# Altium footprint library rocke_mcu.PcbLib: 33 footprints (part 2 of 3)
Each footprint in its own frame and in the unit in brackets; x right, y up, seen from the top. Pads: shape width x height; smd on the part's side, far side on the other; paste and mask are expansions set on the pad; w line width, h text height; cw(c..) or ccw(c..) is an arc to the next point about the centre after c.
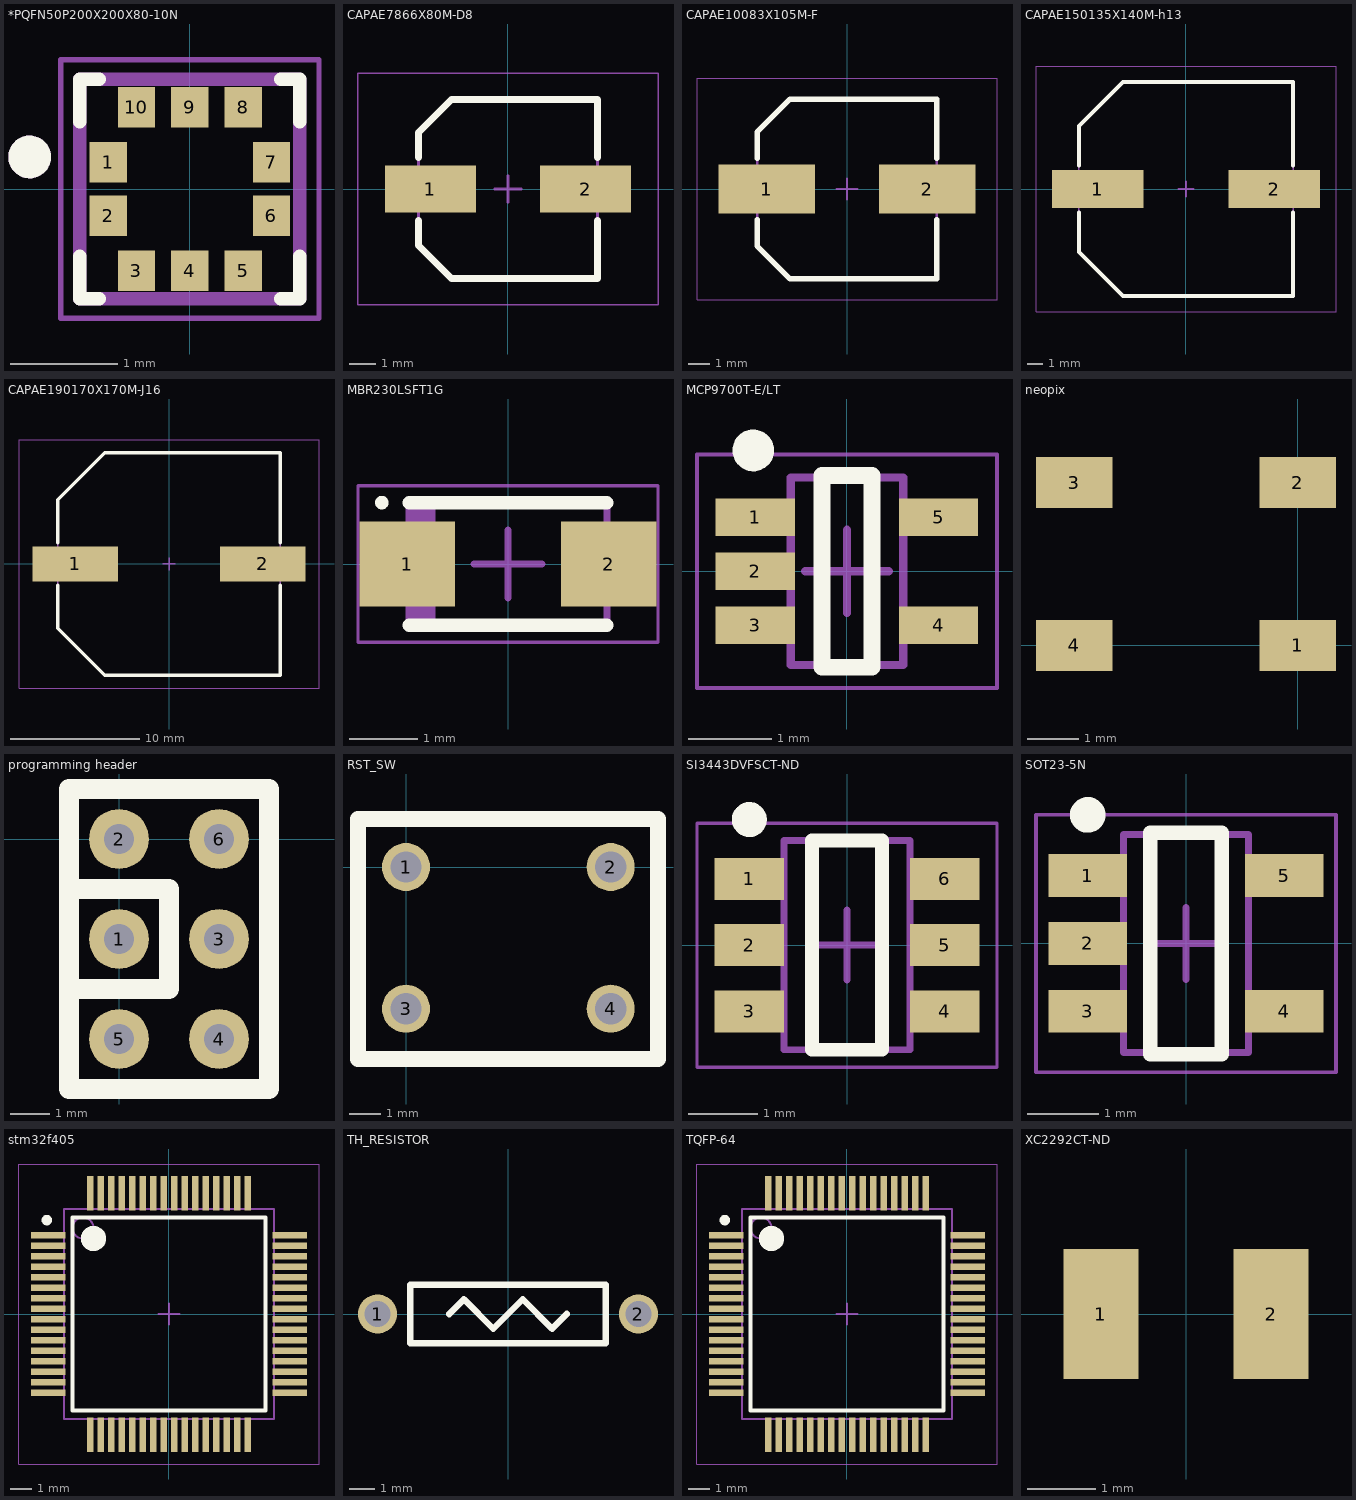
[diagram p1: the footprints below, top view; thin cyan lines are the x and y axes]

## *PQFN50P200X200X80-10N [mm]
pads (10):
  rect 0.35x0.38 smd: 1(-0.765,0.25) 2(-0.765,-0.25) 3(-0.5,-0.765) 4(0,-0.765) 5(0.5,-0.765) 6(0.765,-0.25) 7(0.765,0.25) 8(0.5,0.765) 9(0,0.765) 10(-0.5,0.765)
Top Overlay:
  circle w0.2: c-1.5,0.3 r0.1
  lines w0.127: -1.03,-0.63 -1.03,-1.03 -0.85,-1.03 ; -1.03,0.63 -1.03,1.03 -0.85,1.03 ; 0.85,-1.03 1.03,-1.03 1.03,-0.63 ; 0.85,1.03 1.03,1.03 1.03,0.63
Mechanical 4:
  circle w0.2: c-1.5,0.3 r0.1
  circle w0.2: c-1.5,0.3 r0.1
  lines w0.127: -1.03,-1.03 -1.03,1.03 ; -1.03,-1.03 1.03,-1.03 ; -1.03,-1.03 -1.03,1.03 ; -1.03,-1.03 1.03,-1.03 ; -1.03,1.03 1.03,1.03 ; -1.03,1.03 1.03,1.03 ; 1.03,-1.03 1.03,1.03 ; 1.03,-1.03 1.03,1.03
Mechanical 16:
  lines w0.05: -1.21,-1.21 -1.21,1.21 1.21,1.21 1.21,-1.21 -1.21,-1.21
3D body "BMP388--3DModel-STEP-56544.STEP": height 0.8, standoff 0, extent -1,-1 1,1

## CAPAE7866X80M-D8 [mm] "Aluminum Electrolytic Capacitor, Body 6.60x6.60x8.00mm, IPC Low Density"
height 8
pads (2):
  rect 3.45x1.8 smd: 1(-2.95,0) 2(2.95,0)
Top Overlay:
  lines w0.254: -3.4,-1.2 -3.4,-2.15 -2.15,-3.4 3.4,-3.4 3.4,-1.2 ; -3.4,1.2 -3.4,2.15 -2.15,3.4 3.4,3.4 3.4,1.2
Mechanical 13:
  lines w0.1: -3.4,-2.15 -2.15,-3.4 3.4,-3.4 3.4,3.4 -2.15,3.4 -3.4,2.15 -3.4,-2.15
Mechanical 15:
  lines w0.05: -5.7,-4.4 -5.7,4.4 5.7,4.4 5.7,-4.4 -5.7,-4.4
  lines w0.1: -0.5,0 0.5,0 ; 0,-0.5 0,0.5
3D body "CAPAE7866X80M.step": height 8, standoff 0, extent -3.9,-3.4 3.9,3.4

## CAPAE10083X105M-F [mm] "Aluminum Electrolytic Capacitor, Body 8.30x8.30x10.50mm, IPC Low Density"
height 10.5
pads (2):
  rect 4.55x2.3 smd: 1(-3.8,0) 2(3.8,0)
Top Overlay:
  lines w0.254: -4.25,-1.45 -4.25,-2.7 -2.7,-4.25 4.25,-4.25 4.25,-1.45 ; -4.25,1.45 -4.25,2.7 -2.7,4.25 4.25,4.25 4.25,1.45
Mechanical 13:
  lines w0.1: -4.25,-2.7 -4.25,2.7 -2.7,4.25 4.25,4.25 4.25,-4.25 -2.7,-4.25 -4.25,-2.7
Mechanical 15:
  lines w0.05: -7.1,-5.25 7.1,-5.25 7.1,5.25 -7.1,5.25 -7.1,-5.25
  lines w0.1: -0.5,0 0.5,0 ; 0,-0.5 0,0.5
3D body "CAPAE10083X105M.step": height 10.5, standoff 0, extent -5,-4.25 5,4.25

## CAPAE150135X140M-h13 [mm] "Aluminum Electrolytic Capacitor, Body 13.50x13.50x14.00mm, IPC Low Density"
height 14
pads (2):
  rect 5.85x2.4 smd: 1(-5.65,0) 2(5.65,0)
Top Overlay:
  lines w0.254: -6.85,-1.5 -6.85,-4.025 -4.025,-6.85 6.85,-6.85 6.85,-1.5 ; -6.85,1.5 -6.85,4.025 -4.025,6.85 6.85,6.85 6.85,1.5
Mechanical 13:
  lines w0.1: -6.85,-4.025 -6.85,4.025 -4.025,6.85 6.85,6.85 6.85,-6.85 -4.025,-6.85 -6.85,-4.025
Mechanical 15:
  lines w0.05: -9.6,-7.85 9.6,-7.85 9.6,7.85 -9.6,7.85 -9.6,-7.85
  lines w0.1: -0.5,0 0.5,0 ; 0,-0.5 0,0.5
3D body "CAPAE150135X140M.step": height 14, standoff 0, extent -7.5,-6.85 7.5,6.85

## CAPAE190170X170M-J16 [mm] "Aluminum Electrolytic Capacitor, Body 17.00x17.00x17.00mm, IPC Low Density"
height 17
pads (2):
  rect 6.65x2.7 smd: 1(-7.25,0) 2(7.25,0)
Top Overlay:
  lines w0.254: -8.6,-1.65 -8.6,-4.975 -4.975,-8.6 8.6,-8.6 8.6,-1.65 ; -8.6,1.65 -8.6,4.975 -4.975,8.6 8.6,8.6 8.6,1.65
Mechanical 13:
  lines w0.1: -8.6,-4.975 -4.975,-8.6 8.6,-8.6 8.6,8.6 -4.975,8.6 -8.6,4.975 -8.6,-4.975
Mechanical 15:
  lines w0.05: -11.6,-9.6 -11.6,9.6 11.6,9.6 11.6,-9.6 -11.6,-9.6
  lines w0.1: -0.5,0 0.5,0 ; 0,-0.5 0,0.5
3D body "CAPAE190170X170M.step": height 17, standoff 0, extent -9.5,-8.6 9.5,8.6

## MBR230LSFT1G [mm] "Molded Diode, 2-Leads, Body 2.70x1.65mm, IPC Medium Density"
height 0.98
pads (2):
  rect 1.4x1.25 smd: 1(-1.475,0) 2(1.475,0)
Top Overlay:
  circle w0.1: c-1.85,0.9 r0.05
  lines w0.2: -1.45,-0.9 1.45,-0.9 ; -1.45,0.9 1.45,0.9
Mechanical 13:
  rectangle: -1.45,-0.9 -1.06,0.9
  lines w0.1: -1.45,-0.9 -1.45,0.9 1.45,0.9 1.45,-0.9 -1.45,-0.9
Mechanical 15:
  lines w0.05: -2.2,-1.15 -2.2,1.15 2.2,1.15 2.2,-1.15 -2.2,-1.15
  lines w0.1: -0.5,0 0.5,0 ; 0,-0.5 0,0.5
3D body "DIOM2716X10N.step": height 0.98, standoff 0, extent -1.67,-0.9 1.67,0.9

## MCP9700T-E/LT [mm] "SOT23,"
height 1.1
pads (5):
  rect 0.95x0.45 smd: 1(-1.1,0.65) 2(-1.1,0) 3(-1.1,-0.65) 4(1.1,-0.65) 5(1.1,0.65)
Top Overlay:
  circle w0.25: c-1.125,1.45 r0.125
  lines w0.2: -0.3,-1.15 0.3,-1.15 0.3,1.15 -0.3,1.15 -0.3,-1.15
Mechanical 13:
  lines w0.1: -0.675,-1.125 -0.675,1.125 0.675,1.125 0.675,-1.125 -0.675,-1.125
Mechanical 15:
  lines w0.05: -1.8,-1.4 -1.8,1.4 1.8,1.4 1.8,-1.4 -1.8,-1.4
  lines w0.1: -0.5,0 0.5,0 ; 0,-0.5 0,0.5
3D body "SOT65P210X110-5N.step": height 1.1, standoff 0, extent -1.3,-1.125 1.3,1.125

## neopix [mm]
pads (4):
  rect 1.5x1 smd: 1(0,0) 2(0,3.2) 3(-4.4,3.2) 4(-4.4,0)

## programming header [mil]
pads (6):
  round 60 hole 30: 1(0,-100) 2(0,0) 3(100,-100) 4(100,-200) 5(0,-200) 6(100,0)
Top Overlay:
  lines w19.68: -50,-150 50,-150 50,-50 -50,-50 ; -50,-250 150,-250 150,50 -50,50 -50,-250

## RST_SW [mm]
pads (4):
  round 1.524 hole 1: 1(0,0) 2(6.5,0) 3(0,-4.5) 4(6.5,-4.5)
Top Overlay:
  lines w0.5: -1.524,-6.096 8.001,-6.096 8.001,1.524 -1.524,1.524 -1.524,-6.096

## SI3443DVFSCT-ND [mm] "SOT23"
height 1.45
pads (6):
  rect 1x0.6 smd: 1(-1.4,0.95) 2(-1.4,0) 3(-1.4,-0.95) 4(1.4,-0.95) 5(1.4,0) 6(1.4,0.95)
Top Overlay:
  circle w0.25: c-1.4,1.8 r0.125
  lines w0.2: -0.5,-1.5 0.5,-1.5 0.5,1.5 -0.5,1.5 -0.5,-1.5
Mechanical 13:
  lines w0.1: -0.9,-1.5 -0.9,1.5 0.9,1.5 0.9,-1.5 -0.9,-1.5
Mechanical 15:
  lines w0.05: -2.15,-1.75 -2.15,1.75 2.15,1.75 2.15,-1.75 -2.15,-1.75
  lines w0.1: -0.5,0 0.5,0 ; 0,-0.5 0,0.5
3D body "SOT95P280X145-6N.step": height 1.45, standoff 0, extent -1.55,-1.5 1.55,1.5

## SOT23-5N [mm] "SOT23, 5-Leads, Body 2.90x2.80mm, Pitch 0.95mm, IPC Medium Density"
height 1.45
pads (5):
  rect 1.1x0.6 smd: 1(-1.375,0.95) 2(-1.375,0) 3(-1.375,-0.95) 4(1.375,-0.95) 5(1.375,0.95)
Top Overlay:
  circle w0.25: c-1.375,1.8 r0.125
  lines w0.2: -0.5,-1.55 0.5,-1.55 0.5,1.55 -0.5,1.55 -0.5,-1.55
Mechanical 13:
  lines w0.1: -0.875,-1.525 -0.875,1.525 0.875,1.525 0.875,-1.525 -0.875,-1.525
Mechanical 15:
  lines w0.05: -2.1,-1.8 -2.1,1.8 2.1,1.8 2.1,-1.8 -2.1,-1.8
  lines w0.1: -0.5,0 0.5,0 ; 0,-0.5 0,0.5
3D body "SOT95P280X145-5N.step": height 1.45, standoff 0, extent -1.5,-1.525 1.5,1.525

## stm32f405 [mm] "TSQFP, 64-Leads, Body 10.00x10.00mm, Pitch 0.50mm, IPC Low Density"
height 1.6
pads (64):
  rect 1.65x0.3 smd: 1(-5.75,3.75) 2(-5.75,3.25) 3(-5.75,2.75) 4(-5.75,2.25) 5(-5.75,1.75) 6(-5.75,1.25) 7(-5.75,0.75) 8(-5.75,0.25) 9(-5.75,-0.25) 10(-5.75,-0.75) 11(-5.75,-1.25) 12(-5.75,-1.75) 13(-5.75,-2.25) 14(-5.75,-2.75) 15(-5.75,-3.25) 16(-5.75,-3.75) 33(5.75,-3.75) 34(5.75,-3.25) 35(5.75,-2.75) 36(5.75,-2.25) 37(5.75,-1.75) 38(5.75,-1.25) 39(5.75,-0.75) 40(5.75,-0.25) 41(5.75,0.25) 42(5.75,0.75) 43(5.75,1.25) 44(5.75,1.75) 45(5.75,2.25) 46(5.75,2.75) 47(5.75,3.25) 48(5.75,3.75)
  rect 0.3x1.65 smd: 17(-3.75,-5.75) 18(-3.25,-5.75) 19(-2.75,-5.75) 20(-2.25,-5.75) 21(-1.75,-5.75) 22(-1.25,-5.75) 23(-0.75,-5.75) 24(-0.25,-5.75) 25(0.25,-5.75) 26(0.75,-5.75) 27(1.25,-5.75) 28(1.75,-5.75) 29(2.25,-5.75) 30(2.75,-5.75) 31(3.25,-5.75) 32(3.75,-5.75) 49(3.75,5.75) 50(3.25,5.75) 51(2.75,5.75) 52(2.25,5.75) 53(1.75,5.75) 54(1.25,5.75) 55(0.75,5.75) 56(0.25,5.75) 57(-0.25,5.75) 58(-0.75,5.75) 59(-1.25,5.75) 60(-1.75,5.75) 61(-2.25,5.75) 62(-2.75,5.75) 63(-3.25,5.75) 64(-3.75,5.75)
Top Overlay:
  circle w0.25: c-5.825,4.475 r0.125
  circle w0.6: c-3.6,3.6 r0.3
  lines w0.2: -4.6,-4.6 -4.6,4.6 4.6,4.6 4.6,-4.6 -4.6,-4.6
Mechanical 13:
  circle w0.1: c-4.1,4.1 r0.5
  lines w0.1: -5,-5 -5,5 5,5 5,-5 -5,-5
Mechanical 15:
  lines w0.05: -7.15,-7.15 -7.15,7.15 7.15,7.15 7.15,-7.15 -7.15,-7.15
  lines w0.1: -0.5,0 0.5,0 ; 0,-0.5 0,0.5
3D body "TSQFP50P1200X1200X160-64M.step": height 1.6, standoff 0, extent -6,-6 6,6

## TH_RESISTOR [mil]
pads (2):
  round 60 hole 40 paste-50: 1(-200,0) 2(200,0)
Top Overlay:
  lines w10: -90,0 -67.5,22.5 -22.5,-22.5 22.5,22.5 67.5,-22.5 90,0 ; -150,-45 150,-45 150,45 -150,45 -150,-45
3D body "TH-Resistor.step": height 106, standoff -60, extent -208,-45.99 213,46.01

## TQFP-64 [mm] "TSQFP, 64-Leads, Body 10.00x10.00mm, Pitch 0.50mm, IPC Low Density"
height 1.6
pads (64):
  rect 1.65x0.3 smd: 1(-5.75,3.75) 2(-5.75,3.25) 3(-5.75,2.75) 4(-5.75,2.25) 5(-5.75,1.75) 6(-5.75,1.25) 7(-5.75,0.75) 8(-5.75,0.25) 9(-5.75,-0.25) 10(-5.75,-0.75) 11(-5.75,-1.25) 12(-5.75,-1.75) 13(-5.75,-2.25) 14(-5.75,-2.75) 15(-5.75,-3.25) 16(-5.75,-3.75) 33(5.75,-3.75) 34(5.75,-3.25) 35(5.75,-2.75) 36(5.75,-2.25) 37(5.75,-1.75) 38(5.75,-1.25) 39(5.75,-0.75) 40(5.75,-0.25) 41(5.75,0.25) 42(5.75,0.75) 43(5.75,1.25) 44(5.75,1.75) 45(5.75,2.25) 46(5.75,2.75) 47(5.75,3.25) 48(5.75,3.75)
  rect 0.3x1.65 smd: 17(-3.75,-5.75) 18(-3.25,-5.75) 19(-2.75,-5.75) 20(-2.25,-5.75) 21(-1.75,-5.75) 22(-1.25,-5.75) 23(-0.75,-5.75) 24(-0.25,-5.75) 25(0.25,-5.75) 26(0.75,-5.75) 27(1.25,-5.75) 28(1.75,-5.75) 29(2.25,-5.75) 30(2.75,-5.75) 31(3.25,-5.75) 32(3.75,-5.75) 49(3.75,5.75) 50(3.25,5.75) 51(2.75,5.75) 52(2.25,5.75) 53(1.75,5.75) 54(1.25,5.75) 55(0.75,5.75) 56(0.25,5.75) 57(-0.25,5.75) 58(-0.75,5.75) 59(-1.25,5.75) 60(-1.75,5.75) 61(-2.25,5.75) 62(-2.75,5.75) 63(-3.25,5.75) 64(-3.75,5.75)
Top Overlay:
  circle w0.6: c-3.6,3.6 r0.3
  circle w0.25: c-5.825,4.475 r0.125
  lines w0.2: -4.6,-4.6 4.6,-4.6 4.6,4.6 -4.6,4.6 -4.6,-4.6
Mechanical 13:
  circle w0.1: c-4.1,4.1 r0.5
  lines w0.1: -5,-5 5,-5 5,5 -5,5 -5,-5
Mechanical 15:
  lines w0.05: -7.15,-7.15 7.15,-7.15 7.15,7.15 -7.15,7.15 -7.15,-7.15
  lines w0.1: -0.5,0 0.5,0 ; 0,-0.5 0,0.5
3D body "TSQFP50P1200X1200X160-64M.step": height 1.6, standoff 0, extent -6,-6 6,6

## XC2292CT-ND [mm]
pads (2):
  rect 1.1x1.9 smd: 1(-1.25,0) 2(1.25,0)
3D body "32khz.STEP": height 0.9, standoff 0, extent -1.6,-0.75 1.6,0.75